# Altium schematic symbol library CAP POL 10uF RADIAL.Schlib: 1 symbol
Pins are listed as number, name and electrical type; pins without a type are passive.

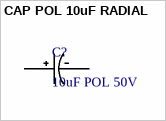
[diagram p0: symbol CAP POL 10uF RADIAL]

## CAP POL 10uF RADIAL
designator C?, comment 10uF POL 50V
CAP ALUM 10UF 50V RADIAL; Tolerance: 20%; Temperature Coefficient: Unspecified; ComponentLink1Description: Digikey Link; ComponentLink1URL: https://www.digikey.ca/product-detail/en/panasonic-electronic-components/ECA-1HM100I/P10425CT-ND/8603345; Package: RADIAL; Value: 10uF; Rating: 50V; Operating Temperature: -40°C ~ 85°C; Dimensions: 0.197" Dia (5.00mm)
footprint RADIAL - THRU 5mm (Through Hole)
pins: NEG, POS